# Altium footprint library LED5730.PcbLib: 1 footprints
Each footprint in its own frame and in the unit in brackets; x right, y up, seen from the top. Pads: shape width x height; smd on the part's side, far side on the other; paste and mask are expansions set on the pad; w line width, h text height; cw(c..) or ccw(c..) is an arc to the next point about the centre after c.
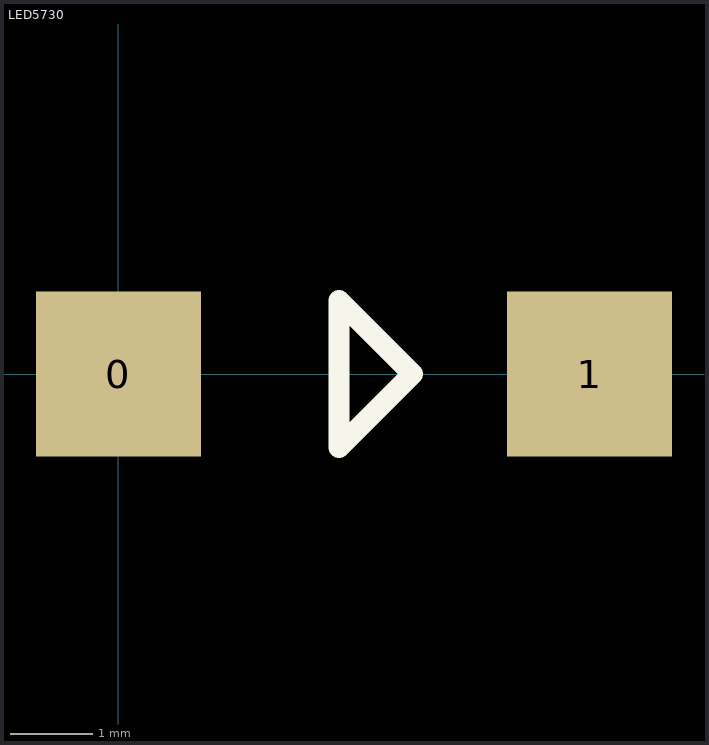
[diagram p0: the footprint, top view; thin cyan lines are the x and y axes]

## LED5730 [mm]
pads (2):
  rect 2x2 smd: 0(0,0) 1(5.7,0)
Top Overlay:
  lines w0.254: 2.667,-0.889 2.667,0.889 3.556,0 2.667,-0.889